# Altium integrated library ST Logic Decoder.IntLib: 88 symbols (part 2 of 2)
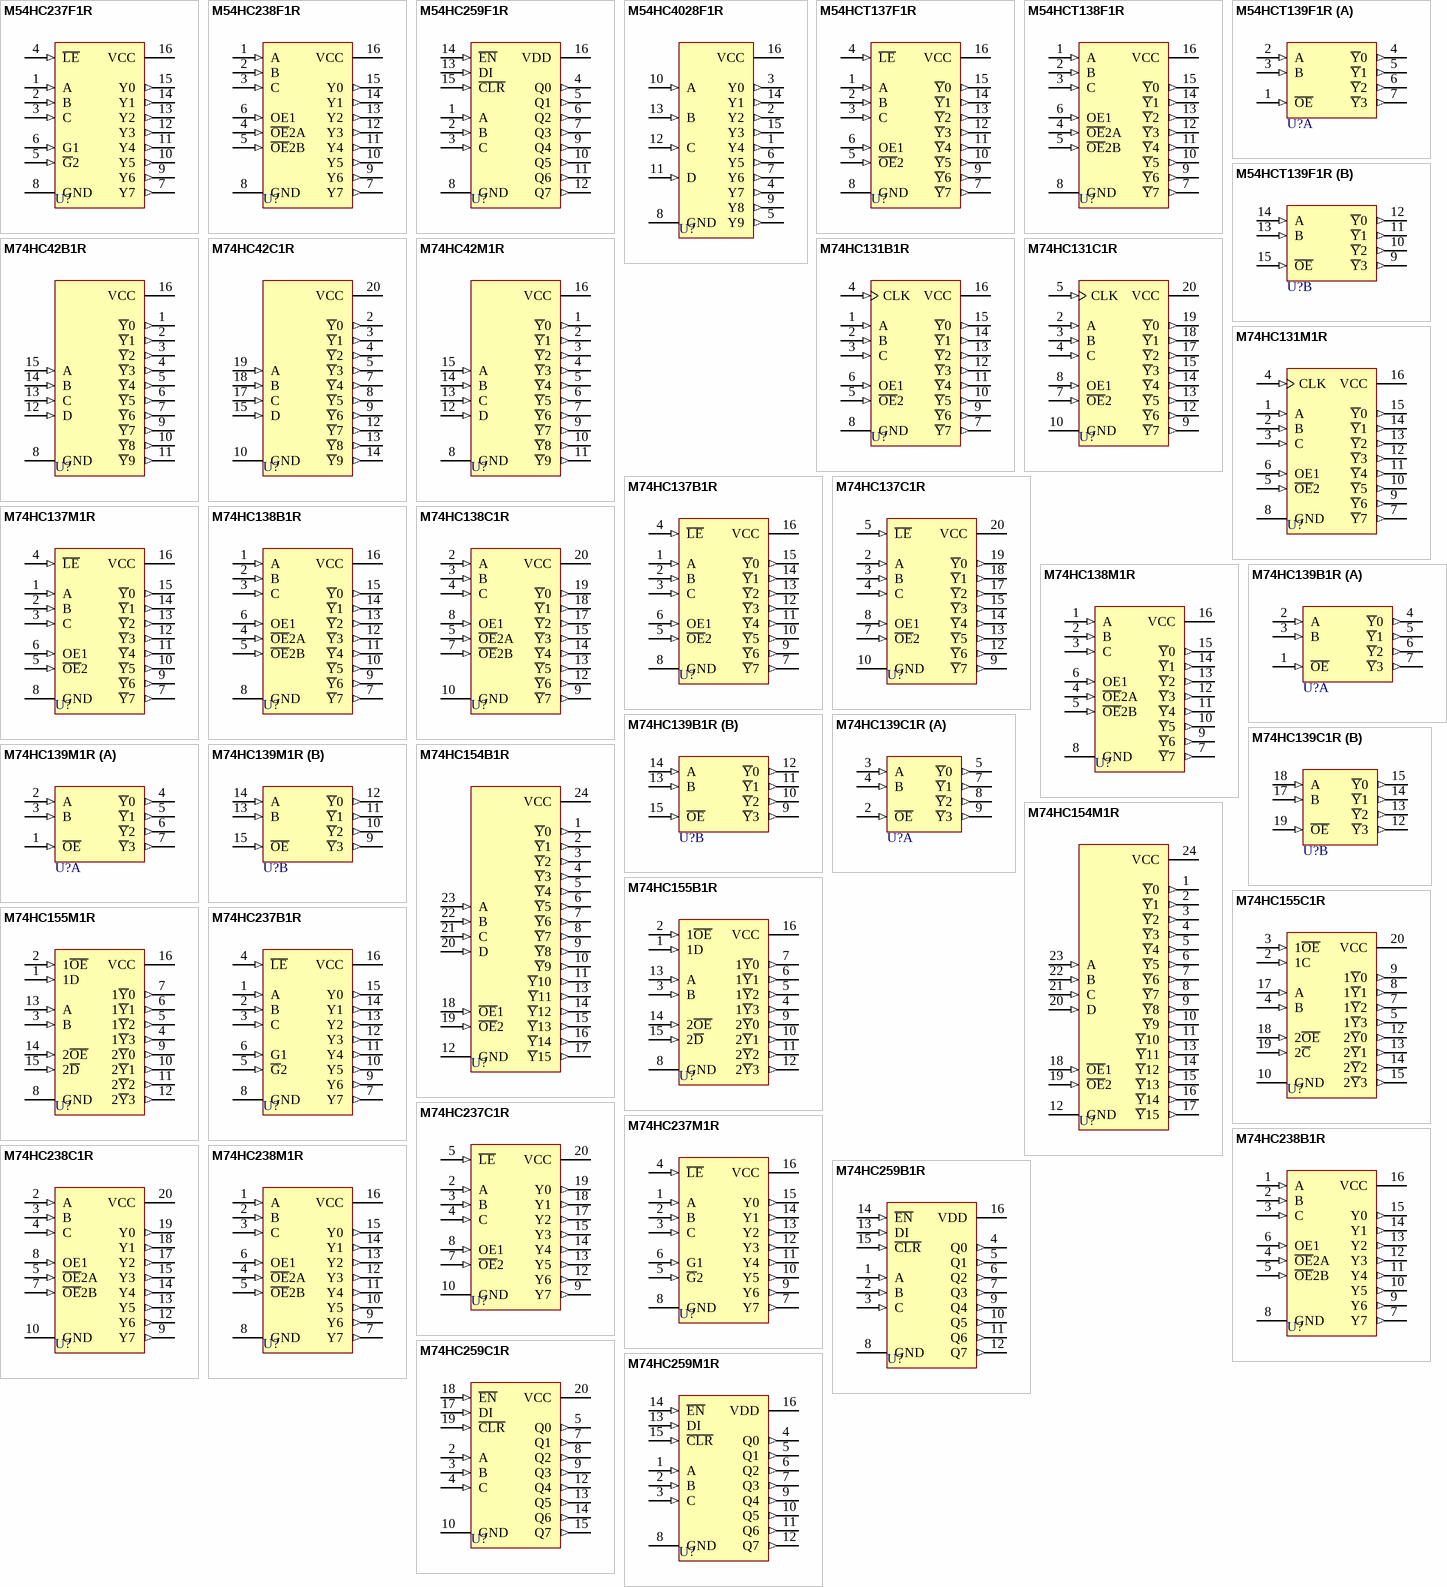
[diagram p3: symbols M54HC237F1R to M74HC259M1R]

## M74HC155M1R
designator U?
Dual 2-to-4 Line Decoder, 3-to-8 Line Decoder; Published: 8-Jun-2000; LatestRevisionDate: 6-Jun-2005; LatestRevisionNote: Stylized 3D Model Added.; DatasheetDocument: Dec-1992; PackageDocument: May-1998; PackageReference: SO16; Publisher: Altium Limited; ComponentLink1Description: Manufacturer Link; ComponentLink1URL: http://www.st.com/; ComponentLink2Description: Datasheet; ComponentLink2URL: http://www.st.com/stonline/products/literature/ds/1907/m74hc155.pdf
footprint SO16 (Small Outline; 16 Leads; Body Width 3.9 mm; Pitch 1.27 mm)
3D model SO16 (Small Outline; 16 Leads; Body Width 3.9 mm; Pitch 1.27 mm)
signal-integrity model M74HC155M1R
pins: 1 1D (in), 2 1~{OE} (in), 3 B (in), 4 1~{Y}3 (out), 5 1~{Y}2 (out), 6 1~{Y}1 (out), 7 1~{Y}0 (out), 8 GND (power), 9 2~{Y}0 (out), 10 2~{Y}1 (out), 11 2~{Y}2 (out), 12 2~{Y}3 (out), 13 A (in), 14 2~{OE} (in), 15 2~{D} (in), 16 VCC (power)

## M74HC237B1R
designator U?
3-to-8 Line Decoder Latch; Published: 8-Jun-2000; LatestRevisionDate: 6-Jun-2005; LatestRevisionNote: Stylized 3D Model Added.; DatasheetDocument: Oct-1992; PackageDocument: Apr-1996; PackageReference: DIP16; Publisher: Altium Limited; ComponentLink1Description: Manufacturer Link; ComponentLink1URL: http://www.st.com/; ComponentLink2Description: Datasheet; ComponentLink2URL: http://www.st.com/stonline/products/literature/ds/1925/m74hc237.pdf
footprint DIP16 (DIP; 16 Leads; Row Spacing 7.62 mm; Pitch 2.54 mm)
3D model DIP16 (DIP; 16 Leads; Row Spacing 7.62 mm; Pitch 2.54 mm)
signal-integrity model M74HC237B1R
pins: 1 A (in), 2 B (in), 3 C (in), 4 ~{LE} (in), 5 ~{G}2 (in), 6 G1 (in), 7 Y7 (out), 8 GND (power), 9 Y6 (out), 10 Y5 (out), 11 Y4 (out), 12 Y3 (out), 13 Y2 (out), 14 Y1 (out), 15 Y0 (out), 16 VCC (power)

## M74HC237C1R
designator U?
3-to-8 Line Decoder Latch; Note: Pins 1, 6, 11 and 16 are not connected and not drawn.; Published: 8-Jun-2000; LatestRevisionDate: 6-Jun-2005; LatestRevisionNote: Stylized 3D Model Added.; DatasheetDocument: Oct-1992; PackageDocument: Mar-1992; PackageReference: PLCC20; Publisher: Altium Limited; ComponentLink1Description: Manufacturer Link; ComponentLink1URL: http://www.st.com/
footprint PLCC20 (Leaded Chip Carrier; 20 Leads; Body 9 x 9 mm)
3D model M74HC237-PLCC20 (Leaded Chip Carrier; 20 Leads; Body 9 x 9 mm)
signal-integrity model M74HC237C1R
pins: 2 A (in), 3 B (in), 4 C (in), 5 ~{LE} (in), 7 ~{OE}2 (in), 8 OE1 (in), 9 Y7 (out), 10 GND (power), 12 Y6 (out), 13 Y5 (out), 14 Y4 (out), 15 Y3 (out), 17 Y2 (out), 18 Y1 (out), 19 Y0 (out), 20 VCC (power)

## M74HC237M1R
designator U?
3-to-8 Line Decoder Latch; Published: 8-Jun-2000; LatestRevisionDate: 6-Jun-2005; LatestRevisionNote: Stylized 3D Model Added.; DatasheetDocument: Oct-1992; PackageDocument: May-1998; PackageReference: SO16; Publisher: Altium Limited; ComponentLink1Description: Manufacturer Link; ComponentLink1URL: http://www.st.com/; ComponentLink2Description: Datasheet; ComponentLink2URL: http://www.st.com/stonline/products/literature/ds/1925/m74hc237.pdf
footprint SO16 (Small Outline; 16 Leads; Body Width 3.9 mm; Pitch 1.27 mm)
3D model SO16 (Small Outline; 16 Leads; Body Width 3.9 mm; Pitch 1.27 mm)
signal-integrity model M74HC237M1R
pins: 1 A (in), 2 B (in), 3 C (in), 4 ~{LE} (in), 5 ~{G}2 (in), 6 G1 (in), 7 Y7 (out), 8 GND (power), 9 Y6 (out), 10 Y5 (out), 11 Y4 (out), 12 Y3 (out), 13 Y2 (out), 14 Y1 (out), 15 Y0 (out), 16 VCC (power)

## M74HC238B1R
designator U?
3-to-8 Line Decoder; Published: 8-Jun-2000; LatestRevisionDate: 6-Jun-2005; LatestRevisionNote: Stylized 3D Model Added.; DatasheetDocument: Oct-1993; PackageDocument: Apr-1996; PackageReference: DIP16; Publisher: Altium Limited; ComponentLink1Description: Manufacturer Link; ComponentLink1URL: http://www.st.com/; ComponentLink2Description: Datasheet; ComponentLink2URL: http://www.st.com/stonline/products/literature/ds/1926/m74hc238.pdf
footprint DIP16 (DIP; 16 Leads; Row Spacing 7.62 mm; Pitch 2.54 mm)
3D model DIP16 (DIP; 16 Leads; Row Spacing 7.62 mm; Pitch 2.54 mm)
signal-integrity model M74HC238B1R
pins: 1 A (in), 2 B (in), 3 C (in), 4 ~{OE}2A (in), 5 ~{OE}2B (in), 6 OE1 (in), 7 Y7 (out), 8 GND (power), 9 Y6 (out), 10 Y5 (out), 11 Y4 (out), 12 Y3 (out), 13 Y2 (out), 14 Y1 (out), 15 Y0 (out), 16 VCC (power)

## M74HC238C1R
designator U?
3-to-8 Line Decoder; Note: Pins 1, 6, 11 and 16 are not connected and not drawn.; Published: 8-Jun-2000; LatestRevisionDate: 6-Jun-2005; LatestRevisionNote: Stylized 3D Model Added.; DatasheetDocument: Oct-1993; PackageDocument: Mar-1992; PackageReference: PLCC20; Publisher: Altium Limited; ComponentLink1Description: Manufacturer Link; ComponentLink1URL: http://www.st.com/
footprint PLCC20 (Leaded Chip Carrier; 20 Leads; Body 9 x 9 mm)
3D model M74HC238-PLCC20 (Leaded Chip Carrier; 20 Leads; Body 9 x 9 mm)
signal-integrity model M74HC238C1R
pins: 2 A (in), 3 B (in), 4 C (in), 5 ~{OE}2A (in), 7 ~{OE}2B (in), 8 OE1 (in), 9 Y7 (out), 10 GND (power), 12 Y6 (out), 13 Y5 (out), 14 Y4 (out), 15 Y3 (out), 17 Y2 (out), 18 Y1 (out), 19 Y0 (out), 20 VCC (power)

## M74HC238M1R
designator U?
3-to-8 Line Decoder; Published: 8-Jun-2000; LatestRevisionDate: 6-Jun-2005; LatestRevisionNote: Stylized 3D Model Added.; DatasheetDocument: Oct-1993; PackageDocument: May-1998; PackageReference: SO16; Publisher: Altium Limited; ComponentLink1Description: Manufacturer Link; ComponentLink1URL: http://www.st.com/; ComponentLink2Description: Datasheet; ComponentLink2URL: http://www.st.com/stonline/products/literature/ds/1926/m74hc238.pdf
footprint SO16 (Small Outline; 16 Leads; Body Width 3.9 mm; Pitch 1.27 mm)
3D model SO16 (Small Outline; 16 Leads; Body Width 3.9 mm; Pitch 1.27 mm)
signal-integrity model M74HC238M1R
pins: 1 A (in), 2 B (in), 3 C (in), 4 ~{OE}2A (in), 5 ~{OE}2B (in), 6 OE1 (in), 7 Y7 (out), 8 GND (power), 9 Y6 (out), 10 Y5 (out), 11 Y4 (out), 12 Y3 (out), 13 Y2 (out), 14 Y1 (out), 15 Y0 (out), 16 VCC (power)

## M74HC259B1R
designator U?
8-Bit Addressable Latch; Published: 8-Jun-2000; LatestRevisionDate: 6-Jun-2005; LatestRevisionNote: Stylized 3D Model Added.; DatasheetDocument: Oct-1992; PackageDocument: Apr-1996; PackageReference: DIP16; Publisher: Altium Limited; ComponentLink1Description: Manufacturer Link; ComponentLink1URL: http://www.st.com/; ComponentLink2Description: Datasheet; ComponentLink2URL: http://www.st.com/stonline/products/literature/ds/1933/m74hc259.pdf
footprint DIP16 (DIP; 16 Leads; Row Spacing 7.62 mm; Pitch 2.54 mm)
3D model DIP16 (DIP; 16 Leads; Row Spacing 7.62 mm; Pitch 2.54 mm)
signal-integrity model M74HC259B1R
pins: 1 A (in), 2 B (in), 3 C (in), 4 Q0 (out), 5 Q1 (out), 6 Q2 (out), 7 Q3 (out), 8 GND (power), 9 Q4 (out), 10 Q5 (out), 11 Q6 (out), 12 Q7 (out), 13 DI (in), 14 ~{EN} (in), 15 ~{CLR} (in), 16 VDD (power)

## M74HC259C1R
designator U?
8-Bit Addressable Latch; Note: Pins 1, 6, 11 and 16 are not connected and not drawn.; Published: 8-Jun-2000; LatestRevisionDate: 6-Jun-2005; LatestRevisionNote: Stylized 3D Model Added.; DatasheetDocument: Oct-1992; PackageDocument: Mar-1992; PackageReference: PLCC20; Publisher: Altium Limited; ComponentLink1Description: Manufacturer Link; ComponentLink1URL: http://www.st.com/
footprint PLCC20 (Leaded Chip Carrier; 20 Leads; Body 9 x 9 mm)
3D model M74HC259-PLCC20 (Leaded Chip Carrier; 20 Leads; Body 9 x 9 mm)
signal-integrity model M74HC259C1R
pins: 2 A (in), 3 B (in), 4 C (in), 5 Q0 (out), 7 Q1 (out), 8 Q2 (out), 9 Q3 (out), 10 GND (power), 12 Q4 (out), 13 Q5 (out), 14 Q6 (out), 15 Q7 (out), 17 DI (in), 18 ~{EN} (in), 19 ~{CLR} (in), 20 VCC (power)

## M74HC259M1R
designator U?
8-Bit Addressable Latch; Published: 8-Jun-2000; LatestRevisionDate: 6-Jun-2005; LatestRevisionNote: Stylized 3D Model Added.; DatasheetDocument: Oct-1992; PackageDocument: May-1998; PackageReference: SO16; Publisher: Altium Limited; ComponentLink1Description: Manufacturer Link; ComponentLink1URL: http://www.st.com/; ComponentLink2Description: Datasheet; ComponentLink2URL: http://www.st.com/stonline/products/literature/ds/1933/m74hc259.pdf
footprint SO16 (Small Outline; 16 Leads; Body Width 3.9 mm; Pitch 1.27 mm)
3D model SO16 (Small Outline; 16 Leads; Body Width 3.9 mm; Pitch 1.27 mm)
signal-integrity model M74HC259M1R
pins: 1 A (in), 2 B (in), 3 C (in), 4 Q0 (out), 5 Q1 (out), 6 Q2 (out), 7 Q3 (out), 8 GND (power), 9 Q4 (out), 10 Q5 (out), 11 Q6 (out), 12 Q7 (out), 13 DI (in), 14 ~{EN} (in), 15 ~{CLR} (in), 16 VDD (power)

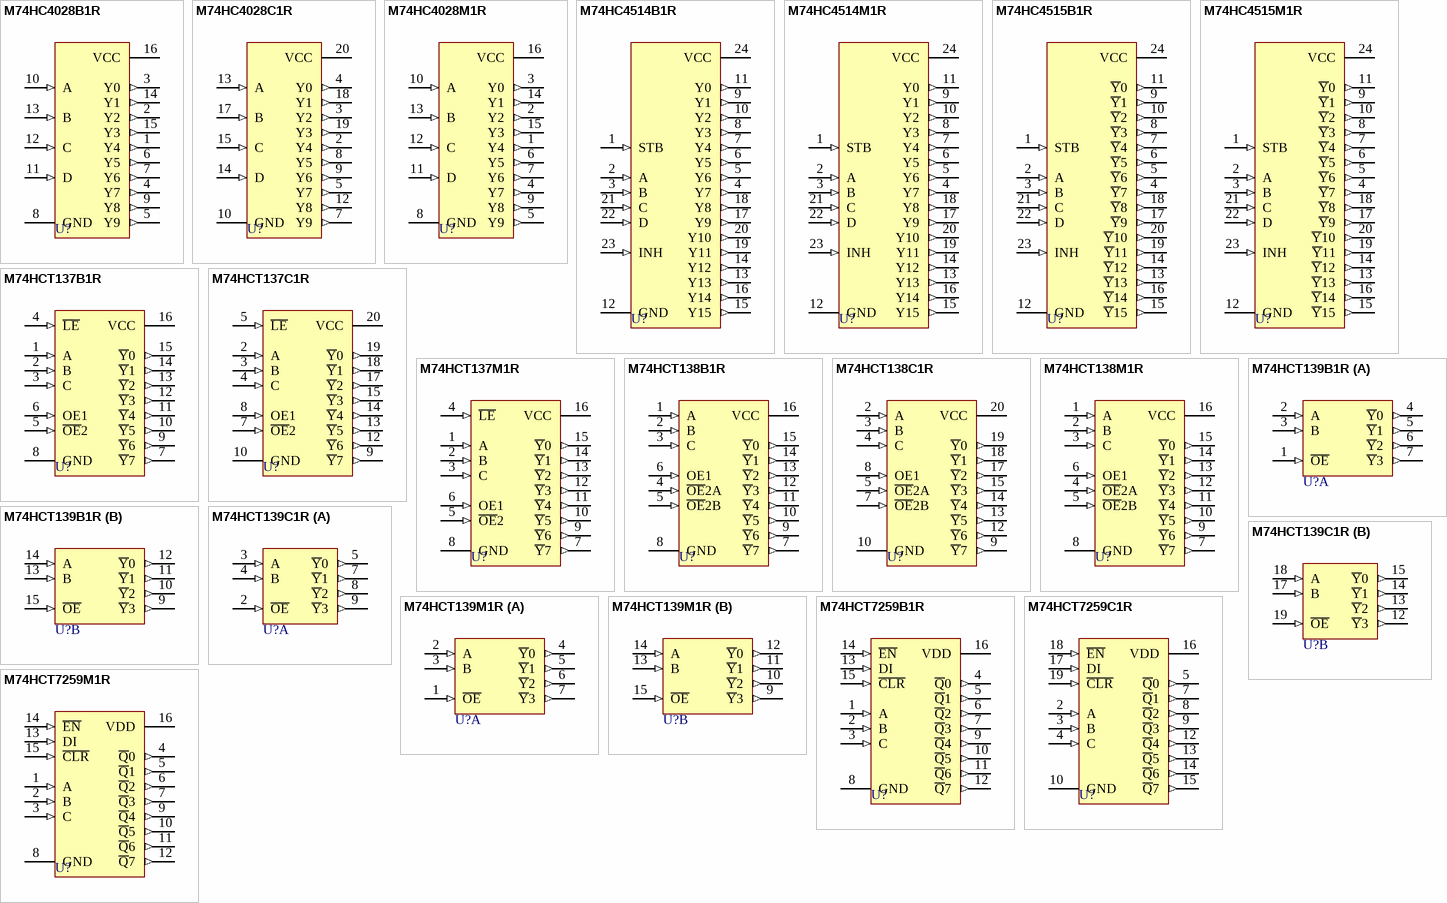
[diagram p2: symbols M74HC4028B1R to M74HCT7259M1R]

## M74HC4028B1R
designator U?
BCD-to-Decimal Decoder; Published: 8-Jun-2000; LatestRevisionDate: 6-Jun-2005; LatestRevisionNote: Stylized 3D Model Added.; DatasheetDocument: Oct-1992; PackageDocument: Apr-1996; PackageReference: DIP16; Publisher: Altium Limited; ComponentLink1Description: Manufacturer Link; ComponentLink1URL: http://www.st.com/; ComponentLink2Description: Datasheet; ComponentLink2URL: http://www.st.com/stonline/products/literature/ds/1964/m74hc4028.pdf
footprint DIP16 (DIP; 16 Leads; Row Spacing 7.62 mm; Pitch 2.54 mm)
3D model DIP16 (DIP; 16 Leads; Row Spacing 7.62 mm; Pitch 2.54 mm)
signal-integrity model M74HC4028B1R
pins: 1 Y4 (out), 2 Y2 (out), 3 Y0 (out), 4 Y7 (out), 5 Y9 (out), 6 Y5 (out), 7 Y6 (out), 8 GND (power), 9 Y8 (out), 10 A (in), 11 D (in), 12 C (in), 13 B (in), 14 Y1 (out), 15 Y3 (out), 16 VCC (power)

## M74HC4028C1R
designator U?
BCD-to-Decimal Decoder; Note: Pins 1, 6, 11 and 16 are not connected and not drawn.; Published: 8-Jun-2000; LatestRevisionDate: 6-Jun-2005; LatestRevisionNote: Stylized 3D Model Added.; DatasheetDocument: Oct-1992; PackageDocument: Mar-1992; PackageReference: PLCC20; Publisher: Altium Limited; ComponentLink1Description: Manufacturer Link; ComponentLink1URL: http://www.st.com/
footprint PLCC20 (Leaded Chip Carrier; 20 Leads; Body 9 x 9 mm)
3D model M74HC4028-PLCC20 (Leaded Chip Carrier; 20 Leads; Body 9 x 9 mm)
signal-integrity model M74HC4028C1R
pins: 2 Y4 (out), 3 Y2 (out), 4 Y0 (out), 5 Y7 (out), 7 Y9 (out), 8 Y5 (out), 9 Y6 (out), 10 GND (power), 12 Y8 (out), 13 A (in), 14 D (in), 15 C (in), 17 B (in), 18 Y1 (out), 19 Y3 (out), 20 VCC (power)

## M74HC4028M1R
designator U?
BCD-to-Decimal Decoder; Published: 8-Jun-2000; LatestRevisionDate: 6-Jun-2005; LatestRevisionNote: Stylized 3D Model Added.; DatasheetDocument: Oct-1992; PackageDocument: May-1998; PackageReference: SO16; Publisher: Altium Limited; ComponentLink1Description: Manufacturer Link; ComponentLink1URL: http://www.st.com/; ComponentLink2Description: Datasheet; ComponentLink2URL: http://www.st.com/stonline/products/literature/ds/1964/m74hc4028.pdf
footprint SO16 (Small Outline; 16 Leads; Body Width 3.9 mm; Pitch 1.27 mm)
3D model SO16 (Small Outline; 16 Leads; Body Width 3.9 mm; Pitch 1.27 mm)
signal-integrity model M74HC4028M1R
pins: 1 Y4 (out), 2 Y2 (out), 3 Y0 (out), 4 Y7 (out), 5 Y9 (out), 6 Y5 (out), 7 Y6 (out), 8 GND (power), 9 Y8 (out), 10 A (in), 11 D (in), 12 C (in), 13 B (in), 14 Y1 (out), 15 Y3 (out), 16 VCC (power)

## M74HC4514B1R
designator U?
4-to-16 Line Decoder/Latch; Published: 8-Jun-2000; LatestRevisionDate: 6-Jun-2005; LatestRevisionNote: Stylized 3D Model Added.; DatasheetDocument: Oct-1993; PackageDocument: Jan-1995; PackageReference: PDIP24; Publisher: Altium Limited; ComponentLink1Description: Manufacturer Link; ComponentLink1URL: http://www.st.com/; ComponentLink2Description: Datasheet; ComponentLink2URL: http://www.st.com/stonline/products/literature/ds/1978/m74hc4514.pdf
footprint PDIP24 (DIP; 24 Leads; Row Spacing 15.24 mm; Pitch 2.54 mm)
3D model PDIP24 (DIP; 24 Leads; Row Spacing 15.24 mm; Pitch 2.54 mm)
signal-integrity model M74HC4514B1R
pins: 1 STB (in), 2 A (in), 3 B (in), 4 Y7 (out), 5 Y6 (out), 6 Y5 (out), 7 Y4 (out), 8 Y3 (out), 9 Y1 (out), 10 Y2 (out), 11 Y0 (out), 12 GND (power), 13 Y13 (out), 14 Y12 (out), 15 Y15 (out), 16 Y14 (out), 17 Y9 (out), 18 Y8 (out), 19 Y11 (out), 20 Y10 (out), 21 C (in), 22 D (in), 23 INH (in), 24 VCC (power)

## M74HC4514M1R
designator U?
4-to-16 Line Decoder/Latch; Published: 8-Jun-2000; LatestRevisionDate: 6-Jun-2005; LatestRevisionNote: Stylized 3D Model Added.; DatasheetDocument: Oct-1993; PackageDocument: Oct-2001; PackageReference: SO24; Publisher: Altium Limited; Code_IPC: SO24W; ComponentLink1Description: Manufacturer Link; ComponentLink1URL: http://www.st.com/; ComponentLink2Description: Datasheet; ComponentLink2URL: http://www.st.com/stonline/products/literature/ds/1978/m74hc4514.pdf
footprint SO24 (Small Outline, Plastic; 24 Leads; Body Width 7.5 mm; Pitch 1.27 mm)
3D model SO24 (Small Outline, Plastic; 24 Leads; Body Width 7.5 mm; Pitch 1.27 mm)
signal-integrity model M74HC4514M1R
pins: 1 STB (in), 2 A (in), 3 B (in), 4 Y7 (out), 5 Y6 (out), 6 Y5 (out), 7 Y4 (out), 8 Y3 (out), 9 Y1 (out), 10 Y2 (out), 11 Y0 (out), 12 GND (power), 13 Y13 (out), 14 Y12 (out), 15 Y15 (out), 16 Y14 (out), 17 Y9 (out), 18 Y8 (out), 19 Y11 (out), 20 Y10 (out), 21 C (in), 22 D (in), 23 INH (in), 24 VCC (power)

## M74HC4515B1R
designator U?
4-to-16 Line Decoder/Latch (INV); Published: 8-Jun-2000; LatestRevisionDate: 6-Jun-2005; LatestRevisionNote: Stylized 3D Model Added.; DatasheetDocument: Oct-1993; PackageDocument: Jan-1995; PackageReference: PDIP24; Publisher: Altium Limited; ComponentLink1Description: Manufacturer Link; ComponentLink1URL: http://www.st.com/; ComponentLink2Description: Datasheet; ComponentLink2URL: http://www.st.com/stonline/products/literature/ds/8097/m74hc4515.pdf
footprint PDIP24 (DIP; 24 Leads; Row Spacing 15.24 mm; Pitch 2.54 mm)
3D model PDIP24 (DIP; 24 Leads; Row Spacing 15.24 mm; Pitch 2.54 mm)
signal-integrity model M74HC4515B1R
pins: 1 STB (in), 2 A (in), 3 B (in), 4 ~{Y}7 (out), 5 ~{Y}6 (out), 6 ~{Y}5 (out), 7 ~{Y}4 (out), 8 ~{Y}3 (out), 9 ~{Y}1 (out), 10 ~{Y}2 (out), 11 ~{Y}0 (out), 12 GND (power), 13 ~{Y}13 (out), 14 ~{Y}12 (out), 15 ~{Y}15 (out), 16 ~{Y}14 (out), 17 ~{Y}9 (out), 18 ~{Y}8 (out), 19 ~{Y}11 (out), 20 ~{Y}10 (out), 21 C (in), 22 D (in), 23 INH (in), 24 VCC (power)

## M74HC4515M1R
designator U?
4-to-16 Line Decoder/Latch (INV); Published: 8-Jun-2000; LatestRevisionDate: 6-Jun-2005; LatestRevisionNote: Stylized 3D Model Added.; DatasheetDocument: Oct-1993; PackageDocument: Oct-2001; PackageReference: SO24; Publisher: Altium Limited; Code_IPC: SO24W; ComponentLink1Description: Manufacturer Link; ComponentLink1URL: http://www.st.com/; ComponentLink2Description: Datasheet; ComponentLink2URL: http://www.st.com/stonline/products/literature/ds/8097/m74hc4515.pdf
footprint SO24 (Small Outline, Plastic; 24 Leads; Body Width 7.5 mm; Pitch 1.27 mm)
3D model SO24 (Small Outline, Plastic; 24 Leads; Body Width 7.5 mm; Pitch 1.27 mm)
signal-integrity model M74HC4515M1R
pins: 1 STB (in), 2 A (in), 3 B (in), 4 ~{Y}7 (out), 5 ~{Y}6 (out), 6 ~{Y}5 (out), 7 ~{Y}4 (out), 8 ~{Y}3 (out), 9 ~{Y}1 (out), 10 ~{Y}2 (out), 11 ~{Y}0 (out), 12 GND (power), 13 ~{Y}13 (out), 14 ~{Y}12 (out), 15 ~{Y}15 (out), 16 ~{Y}14 (out), 17 ~{Y}9 (out), 18 ~{Y}8 (out), 19 ~{Y}11 (out), 20 ~{Y}10 (out), 21 C (in), 22 D (in), 23 INH (in), 24 VCC (power)

## M74HCT137B1R
designator U?
3-to-8 Line Decoder/Latch Inverting; Published: 8-Jun-2000; LatestRevisionDate: 6-Jun-2005; LatestRevisionNote: Stylized 3D Model Added.; DatasheetDocument: Feb-1993; PackageDocument: Apr-1996; PackageReference: DIP16; Publisher: Altium Limited; ComponentLink1Description: Manufacturer Link; ComponentLink1URL: http://www.st.com/
footprint DIP16 (DIP; 16 Leads; Row Spacing 7.62 mm; Pitch 2.54 mm)
3D model DIP16 (DIP; 16 Leads; Row Spacing 7.62 mm; Pitch 2.54 mm)
signal-integrity model M74HCT137B1R
pins: 1 A (in), 2 B (in), 3 C (in), 4 ~{LE} (in), 5 ~{OE}2 (in), 6 OE1 (in), 7 ~{Y}7 (out), 8 GND (power), 9 ~{Y}6 (out), 10 ~{Y}5 (out), 11 ~{Y}4 (out), 12 ~{Y}3 (out), 13 ~{Y}2 (out), 14 ~{Y}1 (out), 15 ~{Y}0 (out), 16 VCC (power)

## M74HCT137C1R
designator U?
3-to-8 Line Decoder/Latch Inverting; Note: Pins 1, 6, 11 and 16 are not connected and not drawn.; Published: 8-Jun-2000; LatestRevisionDate: 6-Jun-2005; LatestRevisionNote: Stylized 3D Model Added.; DatasheetDocument: Feb-1993; PackageDocument: Mar-1992; PackageReference: PLCC20; Publisher: Altium Limited; ComponentLink1Description: Manufacturer Link; ComponentLink1URL: http://www.st.com/
footprint PLCC20 (Leaded Chip Carrier; 20 Leads; Body 9 x 9 mm)
3D model M74HCT137-PLCC20 (Leaded Chip Carrier; 20 Leads; Body 9 x 9 mm)
signal-integrity model M74HCT137C1R
pins: 2 A (in), 3 B (in), 4 C (in), 5 ~{LE} (in), 7 ~{OE}2 (in), 8 OE1 (in), 9 ~{Y}7 (out), 10 GND (power), 12 ~{Y}6 (out), 13 ~{Y}5 (out), 14 ~{Y}4 (out), 15 ~{Y}3 (out), 17 ~{Y}2 (out), 18 ~{Y}1 (out), 19 ~{Y}0 (out), 20 VCC (power)

## M74HCT137M1R
designator U?
3-to-8 Line Decoder/Latch Inverting; Published: 8-Jun-2000; LatestRevisionDate: 6-Jun-2005; LatestRevisionNote: Stylized 3D Model Added.; DatasheetDocument: Feb-1993; PackageDocument: May-1998; PackageReference: SO16; Publisher: Altium Limited; ComponentLink1Description: Manufacturer Link; ComponentLink1URL: http://www.st.com/
footprint SO16 (Small Outline; 16 Leads; Body Width 3.9 mm; Pitch 1.27 mm)
3D model SO16 (Small Outline; 16 Leads; Body Width 3.9 mm; Pitch 1.27 mm)
signal-integrity model M74HCT137M1R
pins: 1 A (in), 2 B (in), 3 C (in), 4 ~{LE} (in), 5 ~{OE}2 (in), 6 OE1 (in), 7 ~{Y}7 (out), 8 GND (power), 9 ~{Y}6 (out), 10 ~{Y}5 (out), 11 ~{Y}4 (out), 12 ~{Y}3 (out), 13 ~{Y}2 (out), 14 ~{Y}1 (out), 15 ~{Y}0 (out), 16 VCC (power)

## M74HCT138B1R
designator U?
3-to-8 Line Decoder Inverting; Published: 8-Jun-2000; LatestRevisionDate: 6-Jun-2005; LatestRevisionNote: Stylized 3D Model Added.; DatasheetDocument: Feb-1993; PackageDocument: Apr-1996; PackageReference: DIP16; Publisher: Altium Limited; ComponentLink1Description: Manufacturer Link; ComponentLink1URL: http://www.st.com/; ComponentLink2Description: Datasheet; ComponentLink2URL: http://www.st.com/stonline/products/literature/ds/2104/m74hct138.pdf
footprint DIP16 (DIP; 16 Leads; Row Spacing 7.62 mm; Pitch 2.54 mm)
3D model DIP16 (DIP; 16 Leads; Row Spacing 7.62 mm; Pitch 2.54 mm)
signal-integrity model M74HCT138B1R
pins: 1 A (in), 2 B (in), 3 C (in), 4 ~{OE}2A (in), 5 ~{OE}2B (in), 6 OE1 (in), 7 ~{Y}7 (out), 8 GND (power), 9 ~{Y}6 (out), 10 ~{Y}5 (out), 11 ~{Y}4 (out), 12 ~{Y}3 (out), 13 ~{Y}2 (out), 14 ~{Y}1 (out), 15 ~{Y}0 (out), 16 VCC (power)

## M74HCT138C1R
designator U?
3-to-8 Line Decoder Inverting; Note: Pins 1, 6, 11 and 16 are not connected and not drawn.; Published: 8-Jun-2000; LatestRevisionDate: 6-Jun-2005; LatestRevisionNote: Stylized 3D Model Added.; DatasheetDocument: Feb-1993; PackageDocument: Mar-1992; PackageReference: PLCC20; Publisher: Altium Limited; ComponentLink1Description: Manufacturer Link; ComponentLink1URL: http://www.st.com/
footprint PLCC20 (Leaded Chip Carrier; 20 Leads; Body 9 x 9 mm)
3D model M74HCT138-PLCC20 (Leaded Chip Carrier; 20 Leads; Body 9 x 9 mm)
signal-integrity model M74HCT138C1R
pins: 2 A (in), 3 B (in), 4 C (in), 5 ~{OE}2A (in), 7 ~{OE}2B (in), 8 OE1 (in), 9 ~{Y}7 (out), 10 GND (power), 12 ~{Y}6 (out), 13 ~{Y}5 (out), 14 ~{Y}4 (out), 15 ~{Y}3 (out), 17 ~{Y}2 (out), 18 ~{Y}1 (out), 19 ~{Y}0 (out), 20 VCC (power)

## M74HCT138M1R
designator U?
3-to-8 Line Decoder Inverting; Published: 8-Jun-2000; LatestRevisionDate: 6-Jun-2005; LatestRevisionNote: Stylized 3D Model Added.; DatasheetDocument: Feb-1993; PackageDocument: May-1998; PackageReference: SO16; Publisher: Altium Limited; ComponentLink1Description: Manufacturer Link; ComponentLink1URL: http://www.st.com/; ComponentLink2Description: Datasheet; ComponentLink2URL: http://www.st.com/stonline/products/literature/ds/2104/m74hct138.pdf
footprint SO16 (Small Outline; 16 Leads; Body Width 3.9 mm; Pitch 1.27 mm)
3D model SO16 (Small Outline; 16 Leads; Body Width 3.9 mm; Pitch 1.27 mm)
signal-integrity model M74HCT138M1R
pins: 1 A (in), 2 B (in), 3 C (in), 4 ~{OE}2A (in), 5 ~{OE}2B (in), 6 OE1 (in), 7 ~{Y}7 (out), 8 GND (power), 9 ~{Y}6 (out), 10 ~{Y}5 (out), 11 ~{Y}4 (out), 12 ~{Y}3 (out), 13 ~{Y}2 (out), 14 ~{Y}1 (out), 15 ~{Y}0 (out), 16 VCC (power)

## M74HCT139B1R
designator U?
Dual 2-to-4 Decoder/Demultiplexer; Published: 8-Jun-2000; LatestRevisionDate: 6-Jun-2005; LatestRevisionNote: Stylized 3D Model Added.; DatasheetDocument: Feb-1993; PackageDocument: Apr-1996; PackageReference: DIP16; Publisher: Altium Limited; ComponentLink1Description: Manufacturer Link; ComponentLink1URL: http://www.st.com/
footprint DIP16 (DIP; 16 Leads; Row Spacing 7.62 mm; Pitch 2.54 mm)
3D model DIP16 (DIP; 16 Leads; Row Spacing 7.62 mm; Pitch 2.54 mm)
signal-integrity model M74HCT139B1R
pins on every part: 8 GND (power) hidden to GND, 16 VCC (power) hidden to VCC
part A pins: 1 ~{OE} (in), 2 A (in), 3 B (in), 4 ~{Y}0 (out), 5 ~{Y}1 (out), 6 ~{Y}2 (out), 7 ~{Y}3 (out)
part B pins: 9 ~{Y}3 (out), 10 ~{Y}2 (out), 11 ~{Y}1 (out), 12 ~{Y}0 (out), 13 B (in), 14 A (in), 15 ~{OE} (in)

## M74HCT139C1R
designator U?
Dual 2-to-4 Decoder/Demultiplexer; Note: Pins 1, 6, 11 and 16 are not connected and not drawn.; Published: 8-Jun-2000; LatestRevisionDate: 6-Jun-2005; LatestRevisionNote: Stylized 3D Model Added.; DatasheetDocument: Feb-1993; PackageDocument: Mar-1992; PackageReference: PLCC20; Publisher: Altium Limited; ComponentLink1Description: Manufacturer Link; ComponentLink1URL: http://www.st.com/
footprint PLCC20 (Leaded Chip Carrier; 20 Leads; Body 9 x 9 mm)
3D model M74HCT139-PLCC20 (Leaded Chip Carrier; 20 Leads; Body 9 x 9 mm)
signal-integrity model M74HCT139C1R
pins on every part: 10 GND (power) hidden to GND, 20 VCC (power) hidden to VCC
part A pins: 2 ~{OE} (in), 3 A (in), 4 B (in), 5 ~{Y}0 (out), 7 ~{Y}1 (out), 8 ~{Y}2 (out), 9 ~{Y}3 (out)
part B pins: 12 ~{Y}3 (out), 13 ~{Y}2 (out), 14 ~{Y}1 (out), 15 ~{Y}0 (out), 17 B (in), 18 A (in), 19 ~{OE} (in)

## M74HCT139M1R
designator U?
Dual 2-to-4 Decoder/Demultiplexer; Published: 8-Jun-2000; LatestRevisionDate: 6-Jun-2005; LatestRevisionNote: Stylized 3D Model Added.; DatasheetDocument: Feb-1993; PackageDocument: May-1998; PackageReference: SO16; Publisher: Altium Limited; ComponentLink1Description: Manufacturer Link; ComponentLink1URL: http://www.st.com/
footprint SO16 (Small Outline; 16 Leads; Body Width 3.9 mm; Pitch 1.27 mm)
3D model SO16 (Small Outline; 16 Leads; Body Width 3.9 mm; Pitch 1.27 mm)
signal-integrity model M74HCT139M1R
pins on every part: 8 GND (power) hidden to GND, 16 VCC (power) hidden to VCC
part A pins: 1 ~{OE} (in), 2 A (in), 3 B (in), 4 ~{Y}0 (out), 5 ~{Y}1 (out), 6 ~{Y}2 (out), 7 ~{Y}3 (out)
part B pins: 9 ~{Y}3 (out), 10 ~{Y}2 (out), 11 ~{Y}1 (out), 12 ~{Y}0 (out), 13 B (in), 14 A (in), 15 ~{OE} (in)

## M74HCT7259B1R
designator U?
8-Bit Addressable Latch/Decoder/Relais Driver (Open Drain, Inverting Output); Published: 8-Jun-2000; LatestRevisionDate: 6-Jun-2005; LatestRevisionNote: Stylized 3D Model Added.; DatasheetDocument: Dec-1992; PackageDocument: Apr-1996; PackageReference: DIP16; Publisher: Altium Limited; ComponentLink1Description: Manufacturer Link; ComponentLink1URL: http://www.st.com/; ComponentLink2Description: Datasheet; ComponentLink2URL: http://www.st.com/stonline/products/literature/ds/2131/m74hct7259.pdf
footprint DIP16 (DIP; 16 Leads; Row Spacing 7.62 mm; Pitch 2.54 mm)
3D model DIP16 (DIP; 16 Leads; Row Spacing 7.62 mm; Pitch 2.54 mm)
signal-integrity model M74HCT7259B1R
pins: 1 A (in), 2 B (in), 3 C (in), 4 ~{Q}0 (out), 5 ~{Q}1 (out), 6 ~{Q}2 (out), 7 ~{Q}3 (out), 8 GND (power), 9 ~{Q}4 (out), 10 ~{Q}5 (out), 11 ~{Q}6 (out), 12 ~{Q}7 (out), 13 DI (in), 14 ~{EN} (in), 15 ~{CLR} (in), 16 VDD (power)

## M74HCT7259C1R
designator U?
8-Bit Addressable Latch/Decoder/Relais Driver (Open Drain, Inverting Output); Note: Pins 1, 6, 11 and 16 are not connected and not drawn.; Published: 8-Jun-2000; LatestRevisionDate: 6-Jun-2005; LatestRevisionNote: Stylized 3D Model Added.; DatasheetDocument: Dec-1992; PackageDocument: Mar-1992; PackageReference: PLCC20; Publisher: Altium Limited; ComponentLink1Description: Manufacturer Link; ComponentLink1URL: http://www.st.com/
footprint PLCC20 (Leaded Chip Carrier; 20 Leads; Body 9 x 9 mm)
3D model M74HCT7259-PLCC20 (Leaded Chip Carrier; 20 Leads; Body 9 x 9 mm)
signal-integrity model M74HCT7259C1R
pins: 2 A (in), 3 B (in), 4 C (in), 5 ~{Q}0 (out), 7 ~{Q}1 (out), 8 ~{Q}2 (out), 9 ~{Q}3 (out), 10 GND (power), 12 ~{Q}4 (out), 13 ~{Q}5 (out), 14 ~{Q}6 (out), 15 ~{Q}7 (out), 16 VDD (power), 17 DI (in), 18 ~{EN} (in), 19 ~{CLR} (in)

## M74HCT7259M1R
designator U?
8-Bit Addressable Latch/Decoder/Relais Driver (Open Drain, Inverting Output); Published: 8-Jun-2000; LatestRevisionDate: 6-Jun-2005; LatestRevisionNote: Stylized 3D Model Added.; DatasheetDocument: Dec-1992; PackageDocument: May-1998; PackageReference: SO16; Publisher: Altium Limited; ComponentLink1Description: Manufacturer Link; ComponentLink1URL: http://www.st.com/; ComponentLink2Description: Datasheet; ComponentLink2URL: http://www.st.com/stonline/products/literature/ds/2131/m74hct7259.pdf
footprint SO16 (Small Outline; 16 Leads; Body Width 3.9 mm; Pitch 1.27 mm)
3D model SO16 (Small Outline; 16 Leads; Body Width 3.9 mm; Pitch 1.27 mm)
signal-integrity model M74HCT7259M1R
pins: 1 A (in), 2 B (in), 3 C (in), 4 ~{Q}0 (out), 5 ~{Q}1 (out), 6 ~{Q}2 (out), 7 ~{Q}3 (out), 8 GND (power), 9 ~{Q}4 (out), 10 ~{Q}5 (out), 11 ~{Q}6 (out), 12 ~{Q}7 (out), 13 DI (in), 14 ~{EN} (in), 15 ~{CLR} (in), 16 VDD (power)